# EAGLE library part 686130148922 (library Eagle_FPC_CONNECTOR_AND_FFC_CAB (rev18c))
WR-FPC 1mm SMT Horiz. Bot. Contact Hinge type WR-FPC 1mm 30 pins Hinge type SMT Horizontal Bottom Contact ;=>Code : Con_FPC_ZIF_1.00_6861xx148922_686130148922 <http://katalog.we-online.de/media/images/eican/Con_FPC_ZIF_1.00_686110148922_pf2.jpg> Details see: http://katalog.we-online.de/em/datasheet/6861xx148922.pdf Created 2014-10-08, Karrer Zheng 2014 (C) Wurth Elektronik
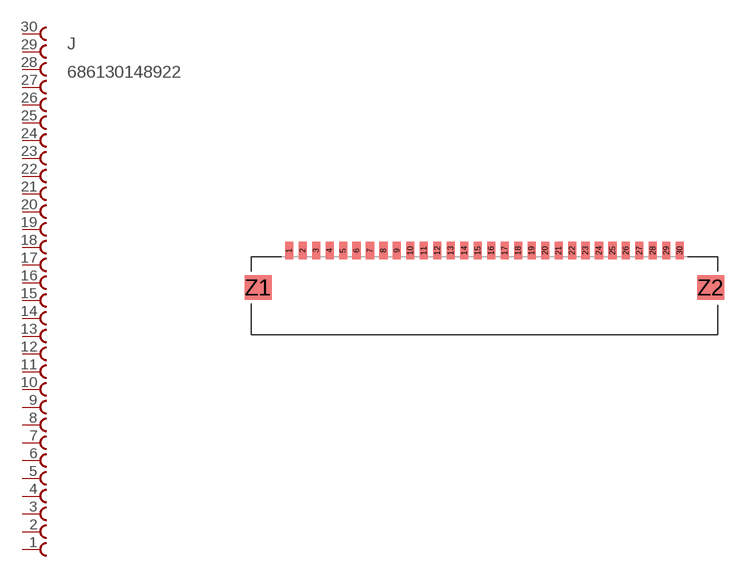
[diagram p103: symbol with the pads of 686130148922; footprint 686130148922]

Designator prefix J

## 686130148922  [686130148922]
1  30  pas
2  29  pas
3  28  pas
4  27  pas
5  26  pas
6  25  pas
7  24  pas
8  23  pas
9  22  pas
10  21  pas
11  20  pas
12  19  pas
13  18  pas
14  17  pas
15  16  pas
16  15  pas
17  14  pas
18  13  pas
19  12  pas
20  11  pas
21  10  pas
22  9  pas
23  8  pas
24  7  pas
25  6  pas
26  5  pas
27  4  pas
28  3  pas
29  2  pas
30  1  pas

## Footprint 686130148922 (pad centres in mm)
WR-FPC 1mm SMT Horiz. Bot. Contact Hinge type WR-FPC 1mm 30pins Hinge type SMT Horizontal Bottom Contact
smd 0.6 x 1.3: 1 -14.5,2.75; 2 -13.5,2.75; 3 -12.5,2.75; 4 -11.5,2.75; 5 -10.5,2.75; 6 -9.5,2.75; 7 -8.5,2.75; 8 -7.5,2.75; 9 -6.5,2.75; 10 -5.5,2.75; 11 -4.5,2.75; 12 -3.5,2.75; 13 -2.5,2.75; 14 -1.5,2.75; 15 -0.5,2.75; 16 0.5,2.75; 17 1.5,2.75; 18 2.5,2.75; 19 3.5,2.75; 20 4.5,2.75; 21 5.5,2.75; 22 6.5,2.75; 23 7.5,2.75; 24 8.5,2.75; 25 9.5,2.75; 26 10.5,2.75; 27 11.5,2.75; 28 12.5,2.75; 29 13.5,2.75; 30 14.5,2.75
smd 2 x 1.8: Z1 -16.8,0; Z2 16.8,0